# EAGLE library part ZUMO (library zumo)
ZUMO Robot Chassis Shield Includes board outline, terminals for battery, motors (2), and mounting holes. Also indicates areas permissible for through-hole components. Locations for hall senensors (e.g. AH1751 in SC59 package) indicated on bDocu layer. Pololu Zumo Chassis <https://www.pololu.com/product/1418>
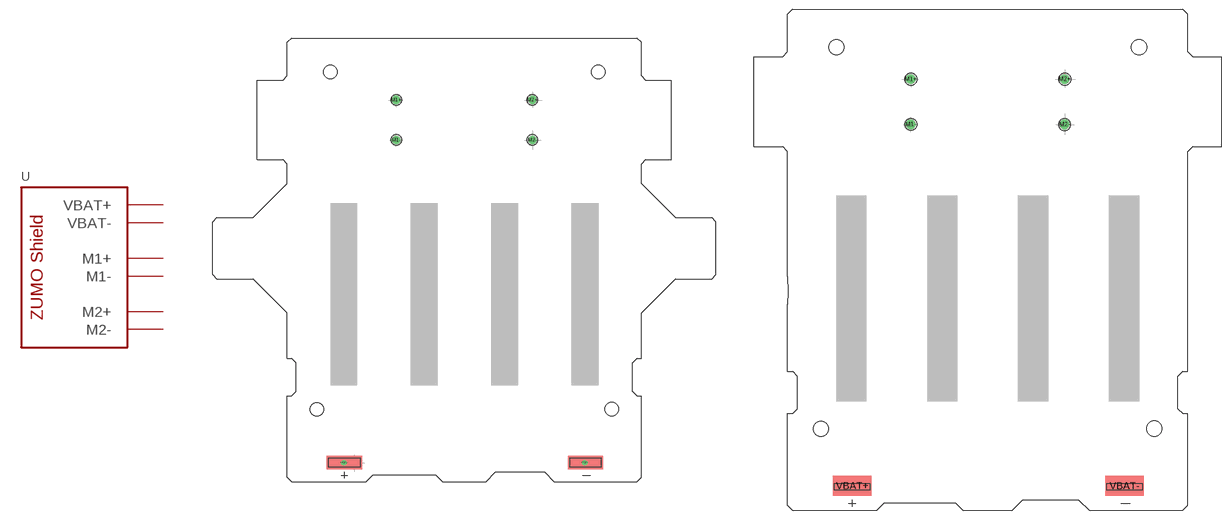
[diagram p2: symbol with the pads of ZUMO; footprints ZUMO, ZUMO_NO_TABS]

Designator prefix U

## ZUMOTABS  [ZUMO]
M1+  M1+
M1-  M1-
M2+  M2+
M2-  M2-
VBAT+  VBAT+
VBAT-  VBAT-

## ZUMONO_TABS  [ZUMO_NO_TABS]
Pads as for ZUMO

## Footprint ZUMO (pad centres in mm)
drill 1.016: M1+ 34.29,71.247; M1- 34.29,63.754; M2+ 59.69,71.247; M2- 59.69,63.754
drill 0.508: VBAT+ 24.536,3.505; VBAT- 69.494,3.505
hole 2.5 at 71.984,76.505
hole 2.5 at 74.498,13.513
hole 2.5 at 19.482,13.487
hole 2.5 at 22.022,76.505

## Footprint ZUMO_NO_TABS (pad centres in mm)
drill 1.016: M1+ 34.29,71.247; M1- 34.29,63.754; M2+ 59.69,71.247; M2- 59.69,63.754
smd 6.35 x 3.302: VBAT+ 24.638,4.064; VBAT- 69.596,4.064
hole 2.5 at 71.984,76.505
hole 2.5 at 74.498,13.513
hole 2.5 at 19.482,13.487
hole 2.5 at 22.022,76.505